# Altium footprint library OpenPLCv0.2.0_Connector.PcbLib: 22 footprints (part 1 of 2)
Each footprint in its own frame and in the unit in brackets; x right, y up, seen from the top. Pads: shape width x height; smd on the part's side, far side on the other; paste and mask are expansions set on the pad; w line width, h text height; cw(c..) or ccw(c..) is an arc to the next point about the centre after c.
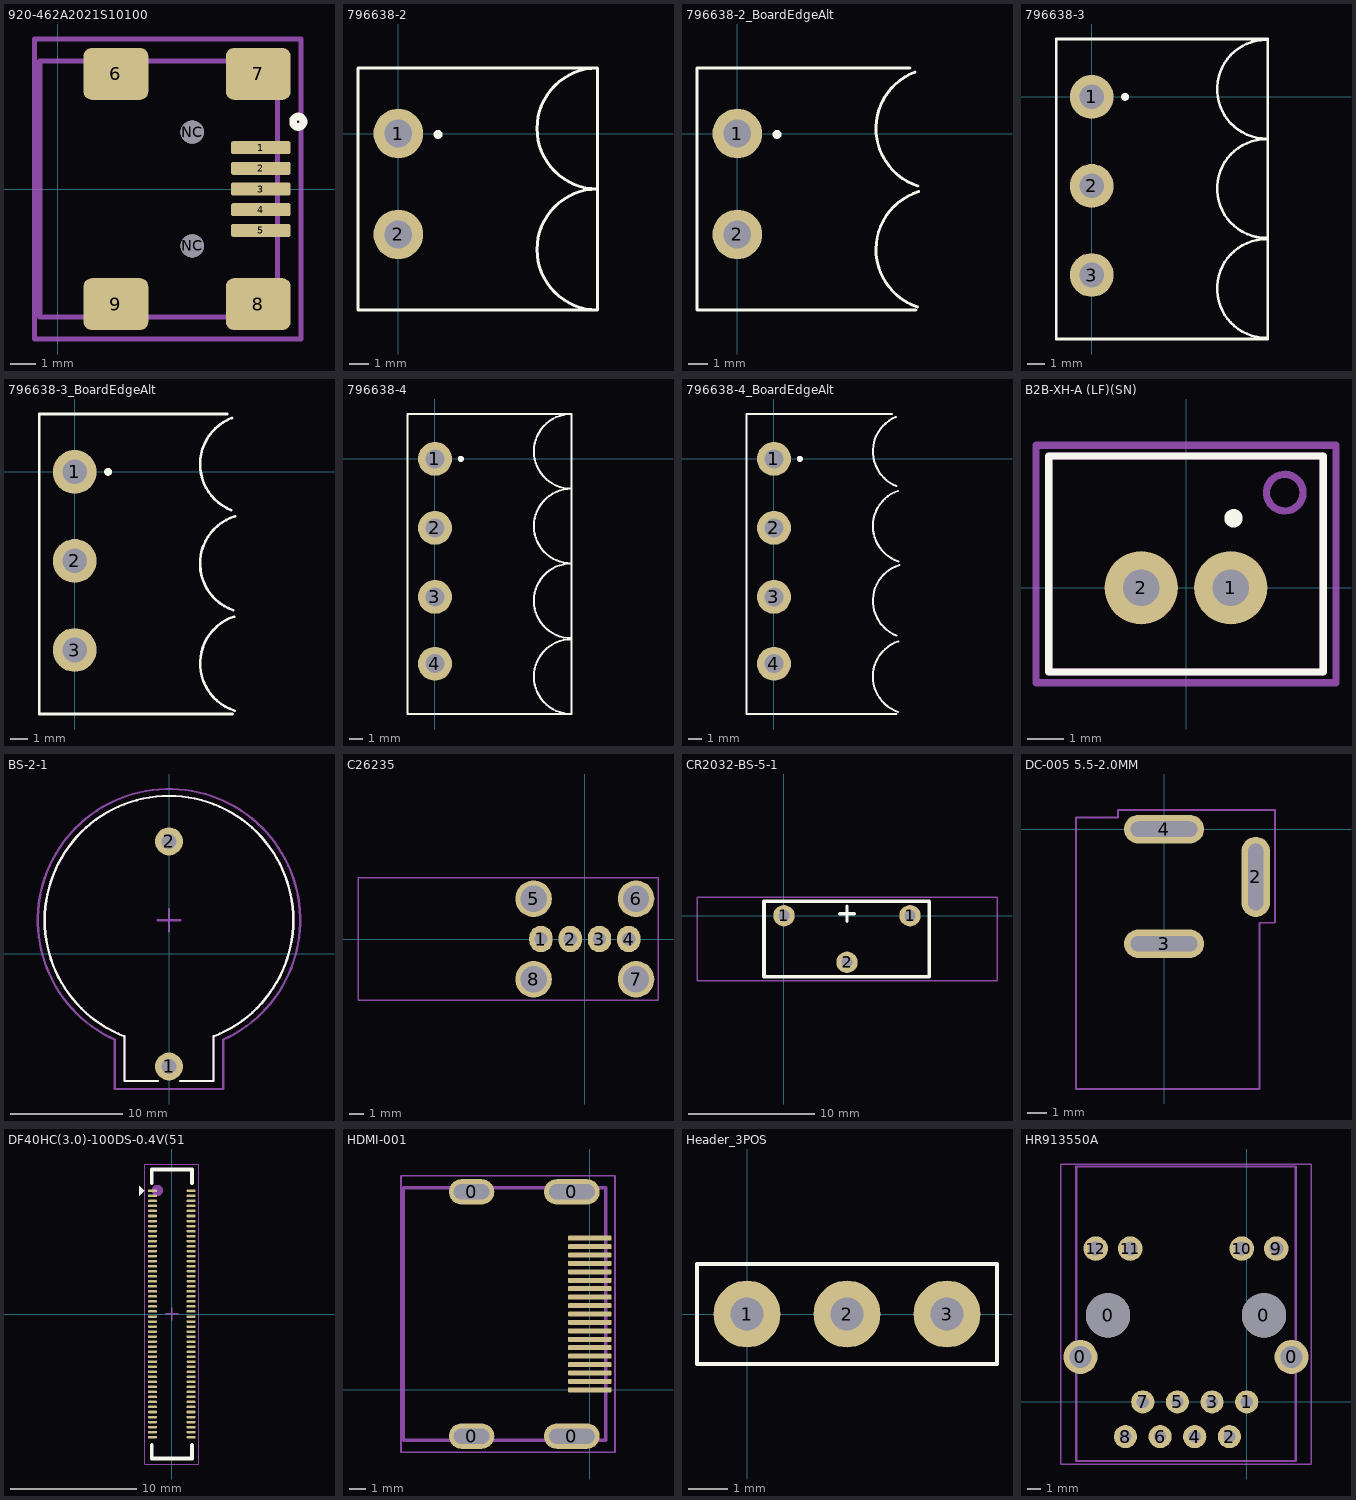
[diagram p0: the footprints below, top view; thin cyan lines are the x and y axes]

## 920-462A2021S10100 [mm] "USB - Mini B Female USB 2 5 SMD USB Connectors RoHS"
pads (11):
  rrect30% 2.3x0.5 smd: 1(7.85,1.6) 2(7.85,0.8) 3(7.85,0) 4(7.85,-0.8) 5(7.85,-1.6)
  rrect30% 2.5x2 smd: 6(2.25,4.45) 7(7.75,4.45) 8(7.75,-4.45) 9(2.25,-4.45)
  round 0.9 hole 0.9 unplated: NC(5.2,-2.2) NC(5.2,2.2)
Top Overlay:
  circle w0.3: c9.3,2.6 r0.2
Top Assembly:
  circle w0.2: c7.4,3.9 r0.361
  lines w0.2: -0.7,-4.95 -0.7,4.95 8.5,4.95 8.5,-4.95 -0.7,-4.95
Top Courtyard (Mech15):
  lines w0.2: -0.9,-5.8 -0.9,5.8 9.4,5.8 9.4,-5.8 -0.9,-5.8
3D body "c-1734035-2-f-3d.stp": height 4.14, standoff -0.95, extent -0.7,-4.95 8.5,4.95

## 796638-2 [mm] "2POS 5.08MM CE R/A HDR,TRM BLK"
pads (2):
  round 2.5 hole 1.4: 1(0,0) 2(0,-5.08)
Top Overlay:
  circle w0.254: c2,-0.04 r0.1
  lines w0.15: 10.033,-8.89 cw(c10.033,-5.842) 10.033,-2.794 cw(c10.033,0.254) 10.033,3.302 ; 10.033,-8.89 -2.032,-8.89 -2.032,3.302 10.033,3.302 ; 10.033,-8.89 10.033,3.302
3D body "c-796638-2-c3-3d.stp": height 8.4, standoff -3.45, extent -2,-8.78 10,3.2

## 796638-2_BoardEdgeAlt [mm] "2POS 5.08MM CE R/A HDR,TRM BLK"
pads (2):
  round 2.5 hole 1.4: 1(0,0) 2(0,-5.08)
Top Overlay:
  circle w0.254: c2,-0.04 r0.1
  lines w0.15: 8.698,3.302 -2.032,3.302 -2.032,-8.89 9,-8.89 ; 8.96,3.107 ccw(c10.033,0.254) 9.111,-2.651 ; 9.085,-8.739 cw(c10.033,-5.842) 9.139,-2.928
3D body "c-796638-2-c3-3d.stp": height 8.4, standoff -3.45, extent -2,-8.78 10,3.2

## 796638-3 [mm] "3POS 5.08MM CE R/A HDR,TRM BLK"
pads (3):
  round 2.5 hole 1.4: 1(0,0) 2(0,-5.08) 3(0,-10.16)
Top Overlay:
  circle w0.254: c1.905,0 r0.1
  lines w0.15: 9.971,-13.749 cw(c9.971,-10.93) 9.971,-8.111 ; 9.971,-8.048 cw(c9.971,-5.229) 9.971,-2.41 ; 9.971,-2.379 cw(c9.971,0.44) 9.971,3.259 ; -2.032,-13.81 10.033,-13.81 10.033,3.302 -2.032,3.302 -2.032,-13.81
3D body "c-796638-3-c3-3d.stp": height 8.4, standoff -3.45, extent -2,-13.81 10,3.25

## 796638-3_BoardEdgeAlt [mm] "3POS 5.08MM CE R/A HDR,TRM BLK"
pads (3):
  round 2.5 hole 1.4: 1(0,0) 2(0,-5.08) 3(0,-10.16)
Top Overlay:
  circle w0.254: c1.905,0 r0.1
  lines w0.15: 8.698,3.302 -2.032,3.302 -2.032,-13.81 9,-13.81 ; 8.929,-2.18 cw(c9.971,0.44) 8.971,3.076 ; 9.039,-7.89 cw(c9.971,-5.229) 9.159,-2.529 ; 9.084,-8.254 ccw(c9.971,-10.93) 9.121,-13.618
3D body "c-796638-3-c3-3d.stp": height 8.4, standoff -3.45, extent -2,-13.81 10,3.25

## 796638-4 [mm] "4POS 5.08MM CE R/A HDR,TRM BLK"
pads (4):
  round 2.5 hole 1.4: 1(0,0) 2(0,-5.08) 3(0,-10.16) 4(0,-15.08)
Top Overlay:
  circle w0.254: c1.905,0 r0.1
  lines w0.15: 10.033,-13.28 ccw(c10.033,-16.03) 10.033,-18.78 ; 10.033,-13.198 cw(c10.033,-10.448) 10.033,-7.698 cw(c10.033,-4.948) 10.033,-2.198 cw(c10.033,0.552) 10.033,3.302 ; 10.033,-18.78 10.033,3.302 ; 10.033,-18.78 -2.032,-18.78 -2.032,3.302 10.033,3.302
3D body "c-796638-4-c3-3d.stp": height 8.5, standoff -3.35, extent -2,-18.85 10,3.29

## 796638-4_BoardEdgeAlt [mm] "4POS 5.08MM CE R/A HDR,TRM BLK"
pads (4):
  round 2.5 hole 1.4: 1(0,0) 2(0,-5.08) 3(0,-10.16) 4(0,-15.08)
Top Overlay:
  circle w0.254: c1.905,0 r0.1
  lines w0.15: 8.698,3.302 -2.032,3.302 -2.032,-18.78 9,-18.78 ; 8.964,3.086 ccw(c10.033,0.552) 9.001,-1.997 ; 9.001,-12.997 cw(c10.033,-10.448) 9.232,-7.817 ; 9.124,-2.353 ccw(c10.033,-4.948) 9.151,-7.553 ; 9.13,-18.627 cw(c10.033,-16.03) 9.147,-13.427
3D body "c-796638-4-c3-3d.stp": height 8.5, standoff -3.35, extent -2,-18.85 10,3.29

## B2B-XH-A (LF)(SN) [mm]
pads (2):
  round 2 hole 1: 1(1.225,0) 2(-1.225,0)
Top Overlay:
  circle w0.3: c1.3,1.9 r0.1
  lines w0.2: -3.75,-2.3 -3.75,3.6 3.75,3.6 3.75,-2.3 -3.75,-2.3
Top Assembly:
  circle w0.2: c2.7,2.6 r0.5
  lines w0.2: -3.75,-2.3 3.75,-2.3 3.75,3.6 -3.75,3.6 -3.75,-2.3
Top Courtyard (Mech15):
  lines w0.2: -4.1,-2.6 -4.1,3.9 4.1,3.9 4.1,-2.6 -4.1,-2.6
3D body "JST B2B-XH-A Through-hole shrouded header top entry type.step": height 7, standoff -3.4, extent -3.75,-2.3 3.75,3.6

## BS-2-1 [mm]
pads (2):
  round 2.5 hole 1.3: 1(0,-10) 2(0,10)
Top Overlay:
  lines w0.2: -3.95,-7.32 cw(c0,3) 3.953,-7.319 ; -3.95,-7.319 -3.95,-11.3 -1,-11.3 ; 1,-11.3 3.95,-11.3 3.95,-7.319
Top Assembly:
  lines w0.2: -3.95,-7.32 cw(c0,3) 3.953,-7.319 ; -3.95,-7.319 -3.95,-11.3 -1,-11.3 ; 1,-11.3 3.95,-11.3 3.95,-7.319
Top Courtyard (Mech15):
  lines w0.2: -1,3 1,3 ; 0,2 0,4 ; -4.826,-12 -4.826,-7.617 cw(c0,3) 4.826,-7.617 4.826,-12 -4.826,-12
3D body: height 8.7, standoff 0, extent -11.05,-8.05 11.05,14.05
3D body: height 8.7, standoff 0, extent -4,-11.3 4,-5

## C26235 [mm] "USB - Type A Female USB 2 4 Through Hole USB Connectors RoHS"
pads (8):
  oval 1.6x1.8 hole 0.9: 1(-3,0) 2(-1,0) 3(1,0) 4(3,0)
  round 2.5 hole 1.8: 5(-3.5,2.75) 6(3.5,2.75) 7(3.5,-2.75) 8(-3.5,-2.75)
Top Courtyard (Mech15):
  lines w0.1: -15.5,-4.2 -15.5,4.2 5,4.2 5,-4.2 -15.5,-4.2
3D body "USB-A 111 (vertical on plate).STEP": height 14.75, standoff -3.65, extent -15.35,-3.59 3.95,3.5

## CR2032-BS-5-1 [mm] "DIP Battery Holders, Clips & Contacts RoHS"
pads (3):
  round 1.7 hole 0.9: 1(0,0) 1(10,0) 2(5,-3.7)
Top Overlay:
  lines w0.25: -1.55,-4.85 -1.55,1.15 ; 4.4,0.15 5.6,0.15 ; 5,-0.45 5,0.75 ; 11.55,-4.85 11.55,1.15 ; -1.6,-4.85 -1.6,1.15 11.5,1.15 11.5,-4.85 -1.6,-4.85
Top Courtyard (Mech15):
  lines w0.1: -6.9,-5.15 16.9,-5.15 16.9,1.45 -6.9,1.45 -6.9,-5.15
3D body "CR2032-BS-5-1.stp": height 17.37, standoff -2.5, extent -6.6,-4.85 16.6,1.15

## DC-005 5.5-2.0MM [mm] "Through Hole AC/DC Power Plugs & Receptacles RoHS"
pads (3):
  oval 1.5x4.2 hole 0.8 slot 3.5 at 90 deg: 2(4.8,-2.5)
  oval 4.2x1.5 hole 0.8 slot 3.5 at 0 deg: 3(0,-6) 4(0,0)
Top Courtyard (Mech15):
  lines w0.1: -4.6,-13.6 -4.6,0.6 -2.4,0.6 -2.4,1 5.8,1 5.8,-4.9 5,-4.9 5,-13.6 -4.6,-13.6
3D body "PJ-002A.step": height 11, standoff -4.1, extent -4.5,-13.5 4.8,0.4

## DF40HC(3.0)-100DS-0.4V(51 [mm]
pads (100):
  rrect50% 0.7x0.2 smd: 1(-1.54,9.8) 2(1.54,9.8) 3(-1.54,9.4) 4(1.54,9.4) 5(-1.54,9) 6(1.54,9) 7(-1.54,8.6) 8(1.54,8.6) 9(-1.54,8.2) 10(1.54,8.2) 11(-1.54,7.8) 12(1.54,7.8) 13(-1.54,7.4) 14(1.54,7.4) 15(-1.54,7) 16(1.54,7) 17(-1.54,6.6) 18(1.54,6.6) 19(-1.54,6.2) 20(1.54,6.2) 21(-1.54,5.8) 22(1.54,5.8) 23(-1.54,5.4) 24(1.54,5.4) 25(-1.54,5) 26(1.54,5) 27(-1.54,4.6) 28(1.54,4.6) 29(-1.54,4.2) 30(1.54,4.2) 31(-1.54,3.8) 32(1.54,3.8) 33(-1.54,3.4) 34(1.54,3.4) 35(-1.54,3) 36(1.54,3) 37(-1.54,2.6) 38(1.54,2.6) 39(-1.54,2.2) 40(1.54,2.2) 41(-1.54,1.8) 42(1.54,1.8) 43(-1.54,1.4) 44(1.54,1.4) 45(-1.54,1) 46(1.54,1) 47(-1.54,0.6) 48(1.54,0.6) 49(-1.54,0.2) 50(1.54,0.2) 51(-1.54,-0.2) 52(1.54,-0.2) 53(-1.54,-0.6) 54(1.54,-0.6) 55(-1.54,-1) 56(1.54,-1) 57(-1.54,-1.4) 58(1.54,-1.4) 59(-1.54,-1.8) 60(1.54,-1.8) 61(-1.54,-2.2) 62(1.54,-2.2) 63(-1.54,-2.6) 64(1.54,-2.6) 65(-1.54,-3) 66(1.54,-3) 67(-1.54,-3.4) 68(1.54,-3.4) 69(-1.54,-3.8) 70(1.54,-3.8) 71(-1.54,-4.2) 72(1.54,-4.2) 73(-1.54,-4.6) 74(1.54,-4.6) 75(-1.54,-5) 76(1.54,-5) 77(-1.54,-5.4) 78(1.54,-5.4) 79(-1.54,-5.8) 80(1.54,-5.8) 81(-1.54,-6.2) 82(1.54,-6.2) 83(-1.54,-6.6) 84(1.54,-6.6) 85(-1.54,-7) 86(1.54,-7) 87(-1.54,-7.4) 88(1.54,-7.4) 89(-1.54,-7.8) 90(1.54,-7.8) 91(-1.54,-8.2) 92(1.54,-8.2) 93(-1.54,-8.6) 94(1.54,-8.6) 95(-1.54,-9) 96(1.54,-9) 97(-1.54,-9.4) 98(1.54,-9.4) 99(-1.54,-9.8) 100(1.54,-9.8)
Top Overlay:
  region: -2.2,9.8 -2.4,9.6 -2.6,9.4 -2.6,10.2
  lines w0.3: -1.6,-10.4 -1.6,-11.5 1.6,-11.5 1.6,-10.4 ; -1.6,10.4 -1.6,11.5 1.6,11.5 1.6,10.4
Top Assembly:
  circle w0.5: c-1.143,9.833 r0.2
Top Courtyard (Mech15):
  lines w0.05: -2.159,-11.938 2.159,-11.938 2.159,11.938 -2.159,11.938 -2.159,-11.938
  lines w0.1: 0,-0.5 0,0 ; 0,0 0.5,0 0,0 ; 0,0 0,0.5 0,0 ; 0,0 -0.5,0 0,0
3D body "DF40HC(3.0)-100DS-0.4V.stp": height 2.89, standoff -0.01, extent -1.69,-11.3 1.69,11.3

## HDMI-001 [mm] "BOOMELE(Boom Precision Elec) HDMI-001"
pads (23):
  oval 2.7x1.5 hole 0.9 slot 2.1 at 0 deg: 0(-7.01,-2.75) 0(-7.01,11.75)
  oval 3.3x1.5 hole 0.9 slot 2.7 at 0 deg: 0(-1.06,-2.75) 0(-1.06,11.75)
  rrect50% 2.6x0.3 smd: 1(0,0) 2(0,0.5) 3(0,1) 4(0,1.5) 5(0,2) 6(0,2.5) 7(0,3) 8(0,3.5) 9(0,4) 10(0,4.5) 11(0,5) 12(0,5.5) 13(0,6) 14(0,6.5) 15(0,7) 16(0,7.5) 17(0,8) 18(0,8.5) 19(0,9)
Top Assembly:
  lines w0.2: -11.05,-3 0.95,-3 0.95,12 -11.05,12 -11.05,-3
Top Courtyard (Mech15):
  lines w0.1: -11.2,-3.7 1.5,-3.7 1.5,12.7 -11.2,12.7 -11.2,-3.7
3D body "c-1747981-2-l-3d.stp": height 6.08, standoff -1.5, extent -11.05,-3 0.95,12

## Header_3POS [mm]
pads (3):
  round 1.7 hole 0.85: 1(0,0) 2(2.54,0) 3(5.08,0)
Top Overlay:
  lines w0.1: -1.27,-1.27 6.35,-1.27 6.35,1.27 -1.27,1.27 -1.27,-1.27
3D body "pin_header_3.STEP": height 11.04, standoff -2.96, extent -1.27,-1.27 6.35,1.27

## HR913550A [mm] "RJ45 12 1 Green - Yellow Through Hole Ethernet Connectors/Modular Connectors (RJ45 RJ11) RoHS"
pads (16):
  round 2.5 hole 1.63: 0(-12.195,3.3) 0(3.295,3.3)
  round 3.25 hole 3.25: 0(-10.165,6.35) 0(1.265,6.35)
  round 1.7 hole 0.89: 1(0,0) 2(-1.27,-2.54) 3(-2.54,0) 4(-3.81,-2.54) 5(-5.08,0) 6(-6.35,-2.54) 7(-7.62,0) 8(-8.89,-2.54)
  round 1.8 hole 1.02: 9(2.175,11.25) 10(-0.365,11.25) 11(-8.535,11.25) 12(-11.075,11.25)
Top Assembly:
  lines w0.15: -12.5,-4.33 3.6,-4.33 3.6,17.27 -12.5,17.27 -12.5,-4.33
Top Courtyard (Mech15):
  lines w0.1: -13.65,-4.55 -13.65,17.45 4.75,17.45 4.75,-4.55 -13.65,-4.55
3D body "c-2-2301994-6-a-3d.stp": height 13.75, standoff -3.5, extent -12.55,-4.225 3.612,17.125